# Altium schematic symbol library MS5803.SchLib: 1 symbol
Pins are listed as number, name and electrical type; pins without a type are passive.

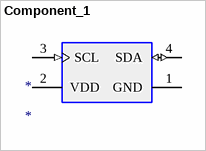
[diagram p0: symbol Component_1]

## Component_1
designator *
pins: 1 GND (power) "Ground", 2 VDD (power) "Positive Supply", 3 SCL (in) "I2C Clock", 4 SDA (io) "I2C Data"